# Altium footprint library planar.PcbLib: 42 footprints (part 1 of 3)
Each footprint in its own frame and in the unit in brackets; x right, y up, seen from the top. Pads: shape width x height; smd on the part's side, far side on the other; paste and mask are expansions set on the pad; w line width, h text height; cw(c..) or ccw(c..) is an arc to the next point about the centre after c.
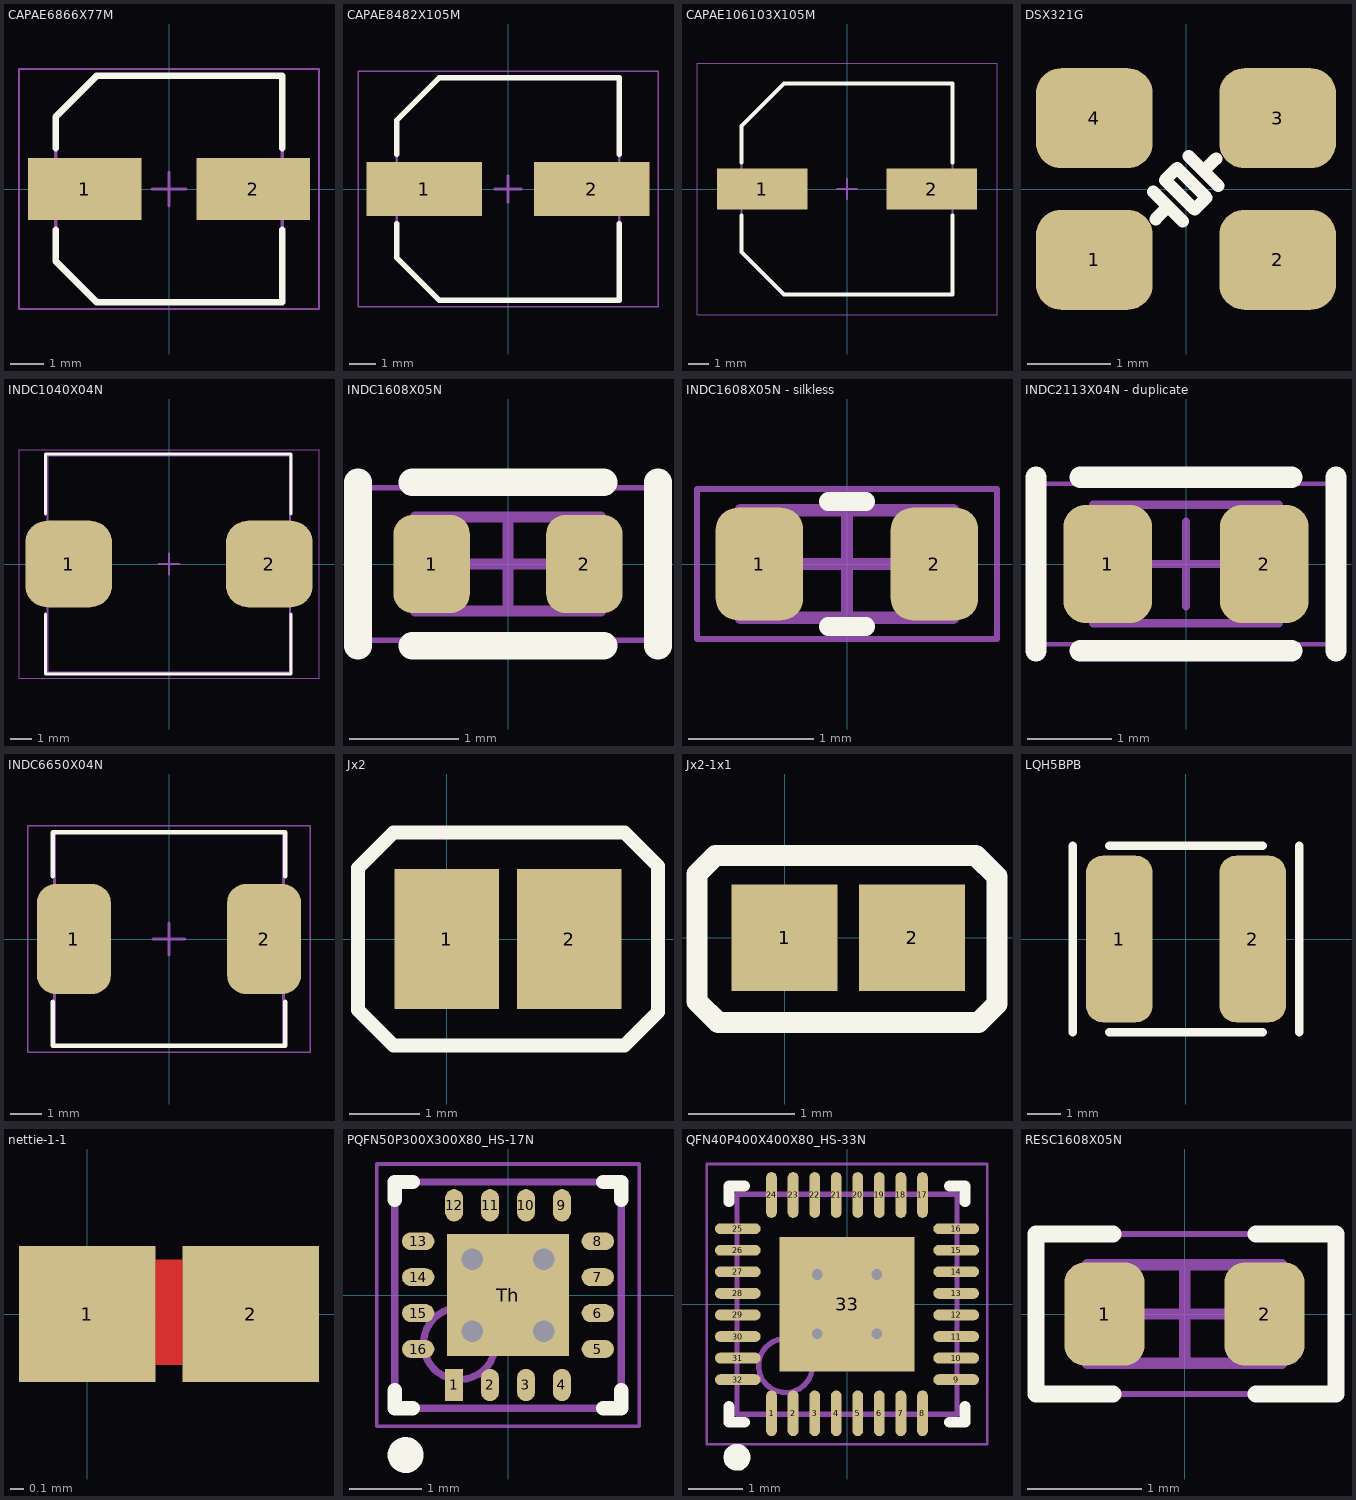
[diagram p0: the footprints below, top view; thin cyan lines are the x and y axes]

## CAPAE6866X77M [mm] "Aluminum Electrolytic Capacitor, Body 6,60x6,60x7,70mm, IPC Low Density"
height 7.7
pads (2):
  rect 3.4x1.85 smd: 1(-2.525,0) 2(2.525,0)
Top Overlay:
  lines w0.2: -3.4,-1.225 -3.4,-2.163 -2.162,-3.4 3.4,-3.4 3.4,-1.225 ; -3.4,1.225 -3.4,2.163 -2.162,3.4 3.4,3.4 3.4,1.225
Mechanical 13:
  lines w0.1: -3.4,-2.163 -2.162,-3.4 3.4,-3.4 3.4,3.4 -2.162,3.4 -3.4,2.163 -3.4,-2.163
Mechanical 15:
  lines w0.05: -4.5,-3.6 -4.5,3.6 4.5,3.6 4.5,-3.6 -4.5,-3.6
  lines w0.1: -0.5,0 0.5,0 ; 0,-0.5 0,0.5
3D body "CAPAE6866X77M.step": height 7.7, standoff 0, extent -3.4,-3.4 3.4,3.4

## CAPAE8482X105M [mm] "Aluminum Electrolytic Capacitor, Body 8.25x8.25x10.50mm, IPC Low Density"
height 10.5
pads (2):
  rect 4.3x2 smd: 1(-3.125,0) 2(3.125,0)
Top Overlay:
  lines w0.2: -4.15,-1.3 -4.15,-2.575 -2.575,-4.15 4.15,-4.15 4.15,-1.3 ; -4.15,1.3 -4.15,2.575 -2.575,4.15 4.15,4.15 4.15,1.3
Mechanical 13:
  lines w0.1: -4.15,-2.575 -2.575,-4.15 4.15,-4.15 4.15,4.15 -2.575,4.15 -4.15,2.575 -4.15,-2.575
Mechanical 15:
  lines w0.05: -5.6,-4.4 -5.6,4.4 5.6,4.4 5.6,-4.4 -5.6,-4.4
  lines w0.1: -0.5,0 0.5,0 ; 0,-0.5 0,0.5
3D body "CAPAE8482X105M.step": height 10.5, standoff 0, extent -4.225,-4.15 4.225,4.15

## CAPAE106103X105M [mm] "Aluminum Electrolytic Capacitor, Body 10,30x10,30x10,50mm, IPC Low Density"
height 10.5
pads (2):
  rect 4.5x2.05 smd: 1(-4.2,0) 2(4.2,0)
Top Overlay:
  lines w0.2: -5.25,-1.325 -5.25,-3.138 -3.137,-5.25 5.25,-5.25 5.25,-1.325 ; -5.25,1.325 -5.25,3.137 -3.137,5.25 5.25,5.25 5.25,1.325
Mechanical 13:
  lines w0.1: -5.25,-3.138 -5.25,3.137 -3.137,5.25 5.25,5.25 5.25,-5.25 -3.137,-5.25 -5.25,-3.138
Mechanical 15:
  lines w0.05: -7.45,-6.25 7.45,-6.25 7.45,6.25 -7.45,6.25 -7.45,-6.25
  lines w0.1: -0.5,0 0.5,0 ; 0,-0.5 0,0.5
3D body "CAPAE106103X105M.step": height 10.5, standoff 0, extent -5.325,-5.25 5.325,5.25

## DSX321G [mm]
pads (4):
  rrect50% 1.4x1.2 smd: 1(-1.1,-0.85) 2(1.1,-0.85) 3(1.1,0.85) 4(-1.1,0.85)
Top Overlay:
  lines w0.15: -0.391,-0.034 -0.037,-0.387 ; -0.364,-0.361 -0.214,-0.21 ; 0.034,0.391 0.387,0.037 ; 0.21,0.214 0.361,0.364 ; -0.249,0.108 0.104,-0.246 0.246,-0.104 -0.108,0.249 -0.249,0.108

## INDC1040X04N [mm] "Chip Inductorr, 2-Leads, 1004S, IPC Medium Density"
height 0.4
pads (2):
  rrect50% 4.1x4.1 smd: 1(-4.75,0) 2(4.75,0)
Top Overlay:
  lines w0.15: -5.85,-2.375 -5.85,-5.2 5.775,-5.2 5.775,-2.375 ; -5.85,2.375 -5.85,5.2 5.775,5.2 5.775,2.375
Mechanical 13:
  lines w0.1: -5.75,-5.15 -5.75,5.15 5.725,5.15 5.725,-5.15 -5.75,-5.15
Mechanical 15:
  lines w0.05: -7.1,-5.4 7.1,-5.4 7.1,5.4 -7.1,5.4 -7.1,-5.4
  lines w0.1: -0.5,0 0.5,0 ; 0,-0.5 0,0.5
3D body "MWSA1004S.STEP": height 4.1, standoff 0, extent -5.75,-5.15 5.75,5.15

## INDC1608X05N [mm] "Chip Resistor, 2-Leads, Body 1,60x0,85mm, IPC Medium Density"
height 0.5
pads (2):
  rrect50% 0.7x0.9 smd: 1(-0.7,0) 2(0.7,0)
Top Overlay:
  lines w0.254: -1.375,-0.75 -1.375,0.75 ; -0.875,-0.75 0.875,-0.75 ; -0.875,0.75 0.875,0.75 ; 1.375,-0.75 1.375,0.75
Mechanical 13:
  lines w0.1: -0.85,-0.43 -0.85,0.43 0.85,0.43 0.85,-0.43 -0.85,-0.43
Mechanical 15:
  lines w0.05: -1.3,-0.7 -1.3,0.7 1.3,0.7 1.3,-0.7 -1.3,-0.7
  lines w0.1: -0.43,0 0.43,0 ; 0,-0.43 0,0.43
3D body "Ind0603.STEP": height 0.45, standoff 0, extent -0.8,-0.425 0.8,0.425

## INDC1608X05N - silkless [mm] "Chip Resistor, 2-Leads, Body 1,60x0,85mm, IPC Medium Density"
height 0.5
pads (2):
  rrect50% 0.7x0.9 smd: 1(-0.7,0) 2(0.7,0)
Top Overlay:
  lines w0.15: -0.15,-0.5 0.15,-0.5 ; -0.15,0.5 0.15,0.5
Mechanical 13:
  lines w0.1: -0.85,-0.43 0.85,-0.43 0.85,0.43 -0.85,0.43 -0.85,-0.43
Mechanical 15:
  lines w0.05: -1.2,-0.6 1.2,-0.6 1.2,0.6 -1.2,0.6 -1.2,-0.6
  lines w0.1: -0.43,0 0.43,0 ; 0,-0.43 0,0.43
3D body "Ind0603.STEP": height 0.45, standoff 0, extent -0.8,-0.425 0.8,0.425

## INDC2113X04N - duplicate [mm] "Chip Resistor, 2-Leads, Body 2,10x1,30mm, IPC Medium Density"
height 0.4
pads (2):
  rrect50% 1.05x1.4 smd: 1(-0.925,0) 2(0.925,0)
Top Overlay:
  lines w0.254: -1.775,-1.025 -1.775,1.025 ; -1.25,-1.025 1.25,-1.025 ; -1.25,1.025 1.25,1.025 ; 1.775,-1.025 1.775,1.025
Mechanical 13:
  lines w0.1: -1.1,-0.7 1.1,-0.7 1.1,0.7 -1.1,0.7 -1.1,-0.7
Mechanical 15:
  lines w0.05: -1.7,-0.95 1.7,-0.95 1.7,0.95 -1.7,0.95 -1.7,-0.95
  lines w0.1: -0.5,0 0.5,0 ; 0,-0.5 0,0.5
3D body "Ind0805.STEP": height 0.5, standoff 0, extent -1.05,-0.65 1.05,0.65

## INDC6650X04N [mm] "Chip Inductorr, 2-Leads, 0603S, IPC Medium Density"
height 0.4
pads (2):
  rrect50% 2.35x3.5 smd: 1(-3.025,0) 2(3.025,0)
Top Overlay:
  lines w0.15: -3.7,-2 -3.7,-3.4 3.7,-3.4 3.7,-2 ; -3.7,2 -3.7,3.4 3.7,3.4 3.7,2
Mechanical 13:
  lines w0.1: -3.65,-3.4 3.65,-3.4 3.65,3.4 -3.65,3.4 -3.65,-3.4
Mechanical 15:
  lines w0.05: -4.5,-3.6 -4.5,3.6 4.5,3.6 4.5,-3.6 -4.5,-3.6
  lines w0.1: -0.5,0 0.5,0 ; 0,-0.5 0,0.5
3D body "MWSA0603S.STEP": height 3.1, standoff 0, extent -3.65,-3.4 3.65,3.4

## Jx2 [mm] "Перемычка под пайку"
height 1
pads (2):
  rect 1.5x2 smd mask+0.13: 1(0,0) 2(1.753,0)
Top Overlay:
  lines w0.2: -1.27,-1.016 -0.762,-1.524 2.54,-1.524 3.023,-1.041 3.023,1.041 2.54,1.524 -0.762,1.524 -1.27,1.016 -1.27,-1.016

## Jx2-1x1 [mm] "Перемычка под пайку"
height 1
pads (2):
  rect 1x1 smd mask+0.13: 1(0,0) 2(1.2,0)
Top Overlay:
  lines w0.2: -0.825,-0.6 -0.825,0.6 -0.65,0.775 1.8,0.775 2,0.575 2,-0.625 1.825,-0.8 -0.625,-0.8 -0.825,-0.6

## LQH5BPB [mm]
height 3
pads (2):
  rrect50% 2x5 smd: 1(-2,0) 2(2,0)
Top Overlay:
  lines w0.25: -3.4,-2.8 -3.4,2.8 ; -2.3,-2.8 2.3,-2.8 ; -2.3,2.8 2.3,2.8 ; 3.4,-2.8 3.4,2.8
3D body "LQH5BPB.STEP": height 2.1, standoff 0, extent -2.5,-2.5 2.5,2.5

## nettie-1-1 [mm] "Net_Tie"
height 1
pads (2):
  rect 1x1 smd mask+0.13: 1(0,0) 2(1.2,0)
Top Layer:
  rectangle: 0.5,-0.375 0.7,0.4

## PQFN50P300X300X80_HS-17N [mm] "PQFN, 16-Leads, Body 3,00x3,00mm, Pitch 0,50mm, Thermal Pad 1,70x1,70mm, IPC Medium Density"
height 0.8
pads (17):
  rect 0.25x0.45 smd mask+0.05: 1(-0.75,-1.25)
  oval 0.25x0.45 smd mask+0.05: 2(-0.25,-1.25) 3(0.25,-1.25) 4(0.75,-1.25) 9(0.75,1.25) 10(0.25,1.25) 11(-0.25,1.25) 12(-0.75,1.25)
  oval 0.45x0.25 smd mask+0.05: 5(1.25,-0.75) 6(1.25,-0.25) 7(1.25,0.25) 8(1.25,0.75) 13(-1.25,0.75) 14(-1.25,0.25) 15(-1.25,-0.25) 16(-1.25,-0.75)
  rect 1.7x1.7 smd mask+0.05: Th(0,0)
via -0.5,-0.5 diameter 0.6 hole 0.3
via -0.5,0.5 diameter 0.6 hole 0.3
via 0.5,-0.5 diameter 0.6 hole 0.3
via 0.5,0.5 diameter 0.6 hole 0.3
Top Overlay:
  circle w0.25: c-1.425,-2.225 r0.125
  lines w0.2: -1.575,-1.325 -1.575,-1.575 -1.325,-1.575 ; -1.575,1.325 -1.575,1.575 -1.325,1.575 ; 1.325,-1.575 1.575,-1.575 1.575,-1.325 ; 1.325,1.575 1.575,1.575 1.575,1.325
Mechanical 13:
  circle w0.1: c-0.675,-0.675 r0.5
  lines w0.1: -1.575,-1.575 1.575,-1.575 1.575,1.575 -1.575,1.575 -1.575,-1.575
Mechanical 15:
  lines w0.05: -1.825,-1.825 1.825,-1.825 1.825,1.825 -1.825,1.825 -1.825,-1.825
  lines w0.1: -0.5,0 0.5,0 ; 0,-0.5 0,0.5
3D body "PQFN50P300X300X80_HS-17N.step": height 0.8, standoff 0, extent -1.575,-1.575 1.575,1.575

## QFN40P400X400X80_HS-33N [mm] "QFN, 32-Leads, Body 4,00x4,00mm, Pitch 0,40mm, Thermal Pad 2,60x2,60mm, IPC Medium Density"
height 0.8
pads (33):
  oval 0.2x0.85 smd mask+0.05: 1(-1.4,-2.025) 2(-1,-2.025) 3(-0.6,-2.025) 4(-0.2,-2.025) 5(0.2,-2.025) 6(0.6,-2.025) 7(1,-2.025) 8(1.4,-2.025) 17(1.4,2.025) 18(1,2.025) 19(0.6,2.025) 20(0.2,2.025) 21(-0.2,2.025) 22(-0.6,2.025) 23(-1,2.025) 24(-1.4,2.025)
  oval 0.85x0.2 smd mask+0.05: 9(2.025,-1.4) 10(2.025,-1) 11(2.025,-0.6) 12(2.025,-0.2) 13(2.025,0.2) 14(2.025,0.6) 15(2.025,1) 16(2.025,1.4) 25(-2.025,1.4) 26(-2.025,1) 27(-2.025,0.6) 28(-2.025,0.2) 29(-2.025,-0.2) 30(-2.025,-0.6) 31(-2.025,-1) 32(-2.025,-1.4)
  rect 2.5x2.5 smd mask+0.05: 33(0,0)
via 0.55,0.55 diameter 0.5 hole 0.2
via 0.55,-0.55 diameter 0.5 hole 0.2
via -0.55,0.55 diameter 0.5 hole 0.2
via -0.55,-0.55 diameter 0.5 hole 0.2
Top Overlay:
  circle w0.25: c-2.04,-2.84 r0.125
  lines w0.2: -2.19,-1.9 -2.19,-2.19 -1.9,-2.19 ; -2.19,1.9 -2.19,2.19 -1.9,2.19 ; 1.9,-2.19 2.19,-2.19 2.19,-1.9 ; 1.9,2.19 2.19,2.19 2.19,1.9
Mechanical 13:
  circle w0.1: c-1.14,-1.14 r0.5
  lines w0.1: -2.04,-2.04 -2.04,2.04 2.04,2.04 2.04,-2.04 -2.04,-2.04
Mechanical 15:
  lines w0.05: -2.6,-2.6 -2.6,2.6 2.6,2.6 2.6,-2.6 -2.6,-2.6
  lines w0.1: -0.5,0 0.5,0 ; 0,-0.5 0,0.5
3D body "QFN40P400X400X80_HS-33N.step": height 0.8, standoff 0, extent -2.09,-2.09 2.09,2.09

## RESC1608X05N [mm] "Chip Resistor, 2-Leads, Body 1,60x0,85mm, IPC Medium Density"
height 0.5
pads (2):
  rrect50% 0.7x0.9 smd: 1(-0.7,0) 2(0.7,0)
Top Overlay:
  lines w0.15: -0.625,-0.7 -1.3,-0.7 -1.3,0.7 -0.625,0.7 ; 0.625,-0.7 1.325,-0.7 1.325,0.7 0.625,0.7
Mechanical 13:
  lines w0.1: -0.85,-0.43 0.85,-0.43 0.85,0.43 -0.85,0.43 -0.85,-0.43
Mechanical 15:
  lines w0.05: -1.3,-0.7 1.3,-0.7 1.3,0.7 -1.3,0.7 -1.3,-0.7
  lines w0.1: -0.43,0 0.43,0 ; 0,-0.43 0,0.43
3D body "Res0603.STEP": height 0.45, standoff 0, extent -0.8,-0.425 0.8,0.425